# EAGLE library part HEADER-1X16 (library clock)
PIN HEADER
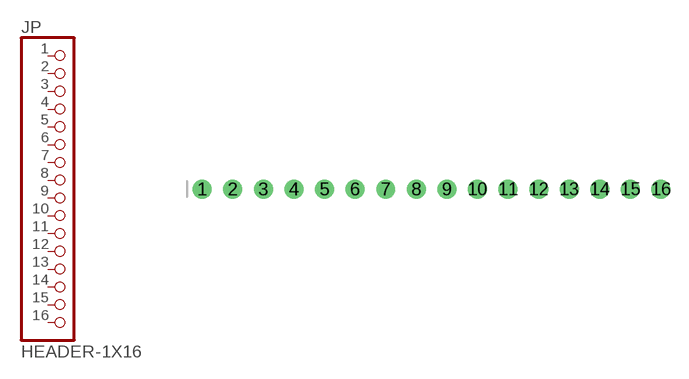
[diagram p6: symbol with the pads of 1X16_ROUND_MIN; footprint 1X16_ROUND_MIN]

Designator prefix JP

## HEADER-1X16_MIN  [1X16_ROUND_MIN]
1  1  pas
2  2  pas
3  3  pas
4  4  pas
5  5  pas
6  6  pas
7  7  pas
8  8  pas
9  9  pas
10  10  pas
11  11  pas
12  12  pas
13  13  pas
14  14  pas
15  15  pas
16  16  pas

## Footprint 1X16_ROUND_MIN (pad centres in mm)
drill 0.9 pad 1.575: 1 -19.05,0; 2 -16.51,0; 3 -13.97,0; 4 -11.43,0; 5 -8.89,0; 6 -6.35,0; 7 -3.81,0; 8 -1.27,0; 9 1.27,0; 10 3.81,0; 11 6.35,0; 12 8.89,0; 13 11.43,0; 14 13.97,0; 15 16.51,0; 16 19.05,0